# Altium schematic symbol library exBoard.SCHLIB: 34 symbols
Pins are listed as number, name and electrical type; pins without a type are passive.

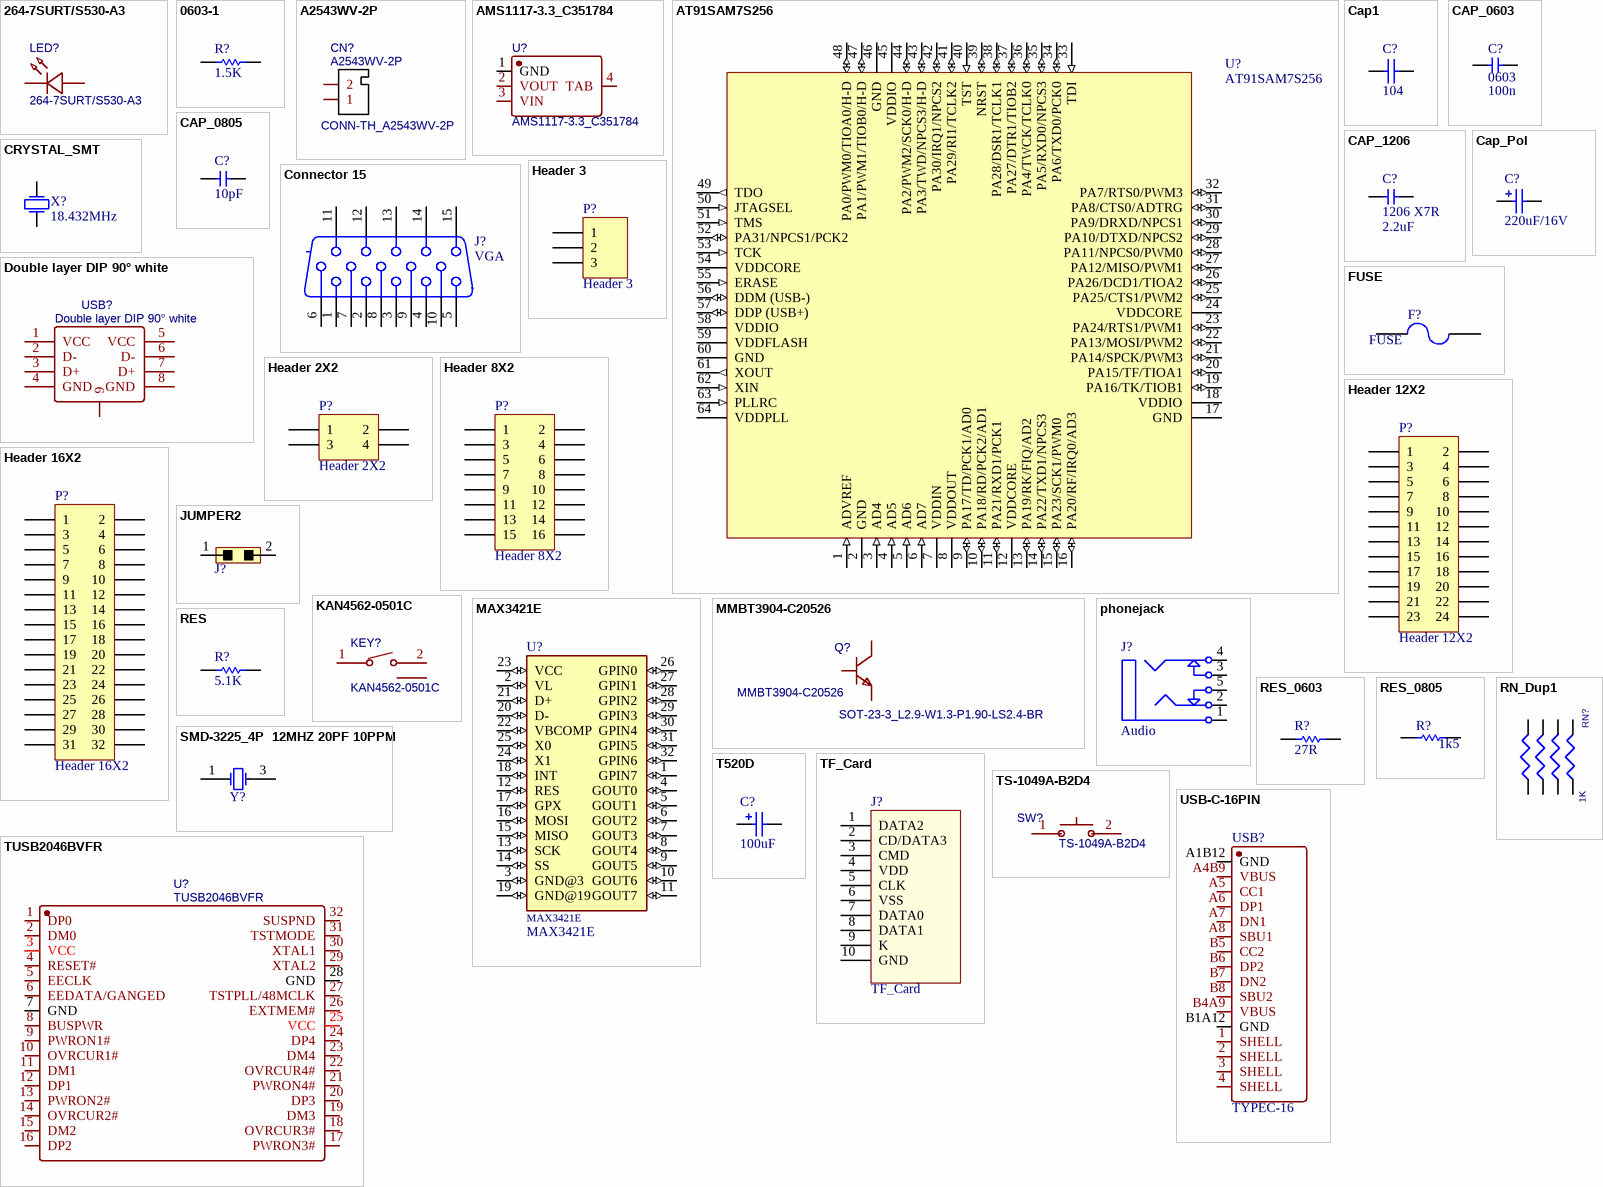
[diagram p0: symbols 264-7SURT/S530-A3 to USB-C-16PIN]

## 264-7SURT/S530-A3
designator LED?
BOM_Manufacturer: Everlight Elec; Contributor: LCSC; BOM_Supplier: LCSC; BOM_Supplier Part: C710207; BOM_Manufacturer Part: 264-7SURT/S530-A3; spicePre: L; spiceSymbolName: 264-7SURT/S530-A3
footprint LED-TH_BD3.2-P2.54-RD
footprint LED-TH_BD3.2-P2.54-RD
pins: 1 -, 2 +

## 0603-1
designator R?, comment value 1.5K  (hidden comment: R0603)
Resistor; Published: 8-Jun-2000; LatestRevisionDate: 17-Jul-2002; LatestRevisionNote: Re-released for DXP Platform.; PackageReference: AXIAL-0.3; Publisher: Altium Limited; PackageDescription: Axial Device, Thru-Hole; 2 Leads; 0.3 in Pin Spacing
simulation model RESISTOR (Resistor)
signal-integrity model Res
footprint 0603_R
footprint 0603
footprint R0402
pins: 1, 2

## A2543WV-2P
designator CN?
BOM_Manufacturer: Changjiang Connectors; Contributor: LCSC; Package Display: Yes; BOM_Supplier: LCSC; BOM_Supplier Part: C239362; BOM_Manufacturer Part: A2543WV-2P; link: https://item.szlcsc.com/238466.html?ref=editor&logined=true; spicePre: C; spiceSymbolName: A2543WV-2P
footprint CONN-TH_A2543WV-2P
pins: 1, 2
text: CONN-TH_A2543WV-2P

## AMS1117-3.3_C351784
designator U?
BOM_Manufacturer: PUOLOP; Contributor: LCSC; BOM_Supplier: LCSC; BOM_Supplier Part: C351784; BOM_Manufacturer Part: AMS1117-3.3; spicePre: U; spiceSymbolName: AMS1117-3.3_C351784
footprint SOT-223-3_L6.5-W3.4-P2.30-LS7.0-BR
footprint SOT-223-3_L6.5-W3.4-P2.30-LS7.0-BR
pins: 1 GND, 2 VOUT, 3 VIN, 4 TAB

## AT91SAM7S256
designator U?
Atmel ARM7 microcontroller, 256k Flash; Value: AT91SAM7S256
footprint LQFP64-10-05 (LQFP64 10 x 10 x 1.4mm)
footprint LQFP64-10-05 (LQFP64 10 x 10 x 1.4mm)
pins: 1 ADVREF (in), 2 GND (power), 3 AD4 (in), 4 AD5 (in), 5 AD6 (in), 6 AD7 (in), 7 VDDIN (power), 8 VDDOUT (power), 9 PA17/TD/PCK1/AD0 (io), 10 PA18/RD/PCK2/AD1 (io), 11 PA21/RXD1/PCK1 (io), 12 VDDCORE (power), 13 PA19/RK/FIQ/AD2 (io), 14 PA22/TXD1/NPCS3 (io), 15 PA23/SCK1/PWM0 (io), 16 PA20/RF/IRQ0/AD3 (io), 17 GND (power), 18 VDDIO (power), 19 PA16/TK/TIOB1 (io), 20 PA15/TF/TIOA1 (io), 21 PA14/SPCK/PWM3 (io), 22 PA13/MOSI/PWM2 (io), 23 PA24/RTS1/PWM1 (io), 24 VDDCORE (power), 25 PA25/CTS1/PWM2 (io), 26 PA26/DCD1/TIOA2 (io), 27 PA12/MISO/PWM1 (io), 28 PA11/NPCS0/PWM0 (io), 29 PA10/DTXD/NPCS2 (io), 30 PA9/DRXD/NPCS1 (io), 31 PA8/CTS0/ADTRG (io), 32 PA7/RTS0/PWM3 (io), 33 TDI (in), 34 PA6/TXD0/PCK0 (io), 35 PA5/RXD0/NPCS3 (io), 36 PA4/TWCK/TCLK0 (io), 37 PA27/DTR1/TIOB2 (io), 38 PA28/DSR1/TCLK1 (io), 39 NRST (io), 40 TST (in), 41 PA29/RI1/TCLK2 (io), 42 PA30/IRQ1/NPCS2 (io), 43 PA3/TWD/NPCS3/H-D (io), 44 PA2/PWM2/SCK0/H-D (io), 45 VDDIO (power), 46 GND (power), 47 PA1/PWM1/TIOB0/H-D (io), 48 PA0/PWM0/TIOA0/H-D (io), 49 TDO (out), 50 JTAGSEL (in), 51 TMS (in), 52 PA31/NPCS1/PCK2 (io), 53 TCK (in), 54 VDDCORE (power), 55 ERASE (in), 56 DDM (USB-) (io), 57 DDP (USB+) (io), 58 VDDIO (power), 59 VDDFLASH (power), 60 GND (power), 61 XOUT (out), 62 XIN (in), 63 PLLRC (in), 64 VDDPLL (power)

## Cap1
designator C?  value 104  (hidden comment: Cap1)
Capacitor; Published: 8-Jun-2000; LatestRevisionDate: 17-Jul-2002; LatestRevisionNote: Re-released for DXP Platform.; PackageReference: RAD-0.3; Publisher: Altium Limited
footprint 2012[0805]-C (Chip Resistor; Body 2.0 x 1.3 mm (LxW typ))
footprint CAP_104
footprint 0603
footprint 0603
pins: 1, 2

## CAP_0603
designator C?, comment 0603  value 100n
0603 footprint non-polorised capacitor
footprint 0603
pins: 1, 2

## CAP_0805
designator C?, comment value 10pF  (hidden comment: 0603)
0805 footprint non-polarised capacitor
footprint 0805
footprint 0603
pins: 1, 2

## CAP_1206
designator C?, comment 1206 X7R  value 2.2uF
1206 footprint non-polorised capacitor
footprint 1206
footprint 0805
pins: 1, 2

## Cap_Pol
designator C?  value 220uF/16V  (hidden comment: Cap_Pol)
Capacitor; Published: 8-Jun-2000; LatestRevisionDate: 17-Jul-2002; LatestRevisionNote: Re-released for DXP Platform.; PackageReference: RAD-0.3; Publisher: Altium Limited
footprint Cap_47uF/16V
footprint CAP_10uF/16V
footprint cap_220uF/16V
footprint 3528(22u16V钽电容)
footprint 3216[1206] (Chip Resistor; Body 3.2 x 1.6 mm (LxW typ))
footprint 3528[1210] (Chip Resistor; Body 3.2 x 1.6 mm (LxW typ))
footprint 0805
pins: 1, 2

## Connector 15
designator J?, comment VGA
Receptacle Assembly, 15-Pin, Sim Line Connector; PackageDocument: B; Positions: 15; Gender: Receptacle Header; Published: 15-Jun-2001; LatestRevisionDate: 17-Jul-2002; LatestRevisionNote: Re-released for DXP Platform.; DatasheetDocument: 24-Nov-1999; PackageReference: 788574; Publisher: Altium Limited; Orientation: Right Angle
footprint VGA
footprint VGA
pins: 1, 2, 3, 4, 5, 6, 7, 8, 9, 10, 11, 12, 13, 14, 15, 16 MH1 hidden, 17 MH2 hidden

## CRYSTAL_SMT
designator X?, comment 18.432MHz
SMT crystal; Value: 18.432MHz
footprint CRYSTAL_SMT (Surface Mount Crystal)
pins: 1 X, 2 X

## Double layer DIP 90° white
designator USB?
BOM_Manufacturer: ValuePro; BOM_Supplier: LCSC; BOM_Manufacturer Part: Double layer DIP 90° white; BOM_Supplier Part: C2341; spicePre: U; spiceSymbolName: Double layer DIP 90° white
footprint USB-A-TH_USB-M-51
footprint USB-A-TH_USB-M-51
pins: 1 VCC, 2 D-, 3 D+, 4 GND, 5 VCC, 6 D-, 7 D+, 8 GND, 9

## FUSE
designator F?
footprint FUSE-1210
footprint FUSE-1812
footprint FUSE-RAD0.2
footprint FUSE-RAD
footprint 1206_
footprint FUSE_1206
pins: 1, 2

## Header 2X2
designator P?
Header, 2-Pin, Dual row; LatestRevisionDate: 17-Jul-2002; LatestRevisionNote: Re-released for DXP Platform.; Publisher: Altium Limited
footprint HDR2X2 (Connector; Header; 2x2 Position)
signal-integrity model Connector
pins: 1, 2, 3, 4

## Header 3
designator P?
Header, 3-Pin; LatestRevisionDate: 17-Jul-2002; LatestRevisionNote: Re-released for DXP Platform.; Publisher: Altium Limited
footprint HDR1X3 (Connector; Header; 3 Position)
signal-integrity model Connector
pins: 1, 2, 3

## Header 8X2
designator P?
Header, 8-Pin, Dual row; LatestRevisionDate: 17-Jul-2002; LatestRevisionNote: Re-released for DXP Platform.; Publisher: Altium Limited
footprint HDR2X8 (Connector; Header; 8x2 Position)
signal-integrity model Connector
pins: 1, 2, 3, 4, 5, 6, 7, 8, 9, 10, 11, 12, 13, 14, 15, 16

## Header 12X2
designator P?
Header, 12-Pin, Dual row; LatestRevisionDate: 17-Jul-2002; LatestRevisionNote: Re-released for DXP Platform.; Publisher: Altium Limited
footprint HDR2X12 (Connector; Header; 12x2 Position)
signal-integrity model Connector
pins: 1, 2, 3, 4, 5, 6, 7, 8, 9, 10, 11, 12, 13, 14, 15, 16, 17, 18, 19, 20, 21, 22, 23, 24

## Header 16X2
designator P?
Header, 16-Pin, Dual row; LatestRevisionDate: 17-Jul-2002; LatestRevisionNote: Re-released for DXP Platform.; Publisher: Altium Limited
footprint HDR2X16 (Connector; Header; 16x2 Position)
signal-integrity model Connector
pins: 1, 2, 3, 4, 5, 6, 7, 8, 9, 10, 11, 12, 13, 14, 15, 16, 17, 18, 19, 20, 21, 22, 23, 24, 25, 26, 27, 28, 29, 30, 31, 32

## JUMPER2
designator J?  (value not drawn)
2 Pin Jumper, 2.54mm
footprint JUMPER2_254
footprint JUMPER2_254
pins: 1, 2

## KAN4562-0501C
designator KEY?
BOM_Manufacturer: GANGYUAN; Contributor: LCSC; SMT Type: Extend; BOM_Supplier: LCSC; BOM_Supplier Part: C231728; BOM_Manufacturer Part: KAN4562-0501C; BOM_JLCPCB SMD: Yes; spicePre: K; spiceSymbolName: KAN4562-0501C
footprint KEY-TH_KAN4562-0501C
footprint KEY-TH_KAN4562-0501C
pins: 0, 1, 2

## MAX3421E
designator U?
USB Controller USB 2.0 SPI Interface 32-TQFN-EP _5x5_; MF: Maxim Integrated; Price: None; Package: TQFP-32 Maxim Integrated; Value: *; MP: MAX3421E; Availability: Unavailable; SnapEDA_Link: https://www.snapeda.com/parts/MAX3421E/Maxim%20Integrated/view-part/1077099/?ref=snap
footprint TQFP32-5MM
footprint TQFP-32_L5.0-W5.0-P0.50-LS7.0-BL
pins: 1 GPIN7 (io), 2 VL (io), 3 GND@3 (io), 4 GOUT0 (io), 5 GOUT1 (io), 6 GOUT2 (io), 7 GOUT3 (io), 8 GOUT4 (io), 9 GOUT5 (io), 10 GOUT6 (io), 11 GOUT7 (io), 12 RES (io), 13 SCK (io), 14 SS (io), 15 MISO (io), 16 MOSI (io), 17 GPX (io), 18 INT (io), 19 GND@19 (io), 20 D- (io), 21 D+ (io), 22 VBCOMP (io), 23 VCC (io), 24 X1 (io), 25 X0 (io), 26 GPIN0 (io), 27 GPIN1 (io), 28 GPIN2 (io), 29 GPIN3 (io), 30 GPIN4 (io), 31 GPIN5 (io), 32 GPIN6 (io)

## MMBT3904-C20526
designator Q?
BOM_Manufacturer: CJ; SMT Type: Basic; Contributor: 立创EDA官方封装库; Package Display: Yes; BOM_Supplier: LCSC; BOM_Manufacturer Part: MMBT3904; BOM_Supplier Part: C20526; BOM_JLCPCB SMD: Yes; spicePre: Q; spiceSymbolName: MMBT3904-C20526
footprint SOT-23-3_L2.9-W1.3-P1.90-LS2.4-BR
footprint SOT-23-3_L2.9-W1.3-P1.90-LS2.4-BR
footprint SOT-23-3_L2.9-W1.3-P1.90-LS2.4-BR
pins: 1 B, 2 E, 3 C
text: SOT-23-3_L2.9-W1.3-P1.90-LS2.4-BR

## phonejack
designator J?, comment Audio
footprint phonejack
pins: 1, 2, 3, 4, 5

## RES
designator R?, comment 5.1K
footprint 0201R
footprint 0402R
footprint 0603R
footprint 0805R
footprint 1206R
footprint 1812R
footprint 2010R
footprint 2512R
footprint AXIAL0.3
footprint AXIAL0.4 (1/4W/1/2W)
footprint AXIAL0.5 (1/2W/1W)
footprint AXIAL0.6 (Variable Resistor; 2 Leads)
footprint AXIAL0.7 (Variable Resistor; 2 Leads)
footprint AXIAL0.9 (Magnetic-Core Inductor; 2 Leads)
footprint AXIAL0.8 (Adjustable Inductor; 2 Leads)
footprint AXIAL1.0 (Adjustable Magnetic-Core Inductor; 2 Leads)
footprint R0402
footprint R0402
footprint 0603
footprint R0402
pins: 1, 2

## RES_0603
designator R?, comment value 27R  (hidden comment: 0603)
0603 footprint resistor
footprint 0603
footprint 0603
pins: 1, 2

## RES_0805
designator R?, comment value 1k5  (hidden comment: 0603)
0805 footprint resistor
footprint 0805
footprint 0603
pins: 1, 2

## RN_Dup1
designator RN?, comment 1K
footprint RN-8P
footprint RN-8P
pins: 1, 2, 3, 4, 5, 6, 7, 8

## SMD-3225_4P  12MHZ 20PF 10PPM
designator Y?, comment 12MHZ 20PF 10PPM  (value not drawn)
贴片晶振; ComponentLink1Description: 供应商链接; ComponentLink1URL: http://www.szlcsc.com/product/details_9522.html; Package: SMD-3225_4P; Supplier: LC; SuppliersPartNumber: C9002
footprint SMD-3225_4P
footprint SMD-3225_4P
footprint SMD-3225_4P
pins: 1 OSC1, 3 OSC2

## T520D
designator C?  value 100uF  (hidden comment: T520D)
Polymer Tantalum Chip Capacitor, T520 Series - KO-CAP Polymer; Published: 17-Jul-2002; LatestRevisionDate: 19-Mar-2004; LatestRevisionNote: Silkscreen dimensions re-sized.; DatasheetDocument: Mar-2001; PackageDocument: Mar-2001; PackageReference: D; Publisher: Altium Limited; Code_JEITA: 7343-31; ComponentLink1Description: Manufacturer Link; ComponentLink1URL: http://www.kemet.com/; ComponentLink2Description: Datasheet; ComponentLink2URL: http://www.kemet.com/kemet/web/homepage/kechome.nsf/vapubfilesname/F3102TA.pdf/$file/F3102TA.pdf
footprint D (Capacitor, SM Tantalum; Body 7.3 x 4.3 mm (LxW typ))
simulation model CAP (Capacitor)
signal-integrity model T520D
footprint CAPT
pins: 1, 2
1 alternate drawing of the same symbol

## TF_Card
designator J?
TF卡座; 版权归属: 源创客; BOM名称: TF卡座; 学习资源: www.ooocke.com
footprint Micro SD
footprint TF1
pins: 1 DATA2, 2 CD/DATA3, 3 CMD, 4 VDD, 5 CLK, 6 VSS, 7 DATA0, 8 DATA1, 9 K, 10 GND

## TS-1049A-B2D4
designator SW?
BOM_Manufacturer: Yuandi; Contributor: LCSC; BOM_Supplier: LCSC; BOM_Supplier Part: C585167; BOM_Manufacturer Part: TS-1049A-B2D4; spicePre: S; spiceSymbolName: TS-1049A-B2D4
footprint SW-SMD_L3.0-W2.0-LS3.5
footprint SW-SMD_L3.0-W2.0-LS3.5
pins: 1, 2

## TUSB2046BVFR
designator U?
BOM_Manufacturer: Texas Instruments; Contributor: LCSC; SMT Type: Extend; BOM_Supplier: LCSC; BOM_Supplier Part: C167642; BOM_Manufacturer Part: TUSB2046BVFR; BOM_JLCPCB SMD: Yes; spicePre: U; spiceSymbolName: TUSB2046BVFR
footprint LQFP-32_L7.0-W7.0-P0.80-LS9.0-TL
pins: 1 DP0, 2 DM0, 3 VCC, 4 RESET#, 5 EECLK, 6 EEDATA/GANGED, 7 GND, 8 BUSPWR, 9 PWRON1#, 10 OVRCUR1#, 11 DM1, 12 DP1, 13 PWRON2#, 14 OVRCUR2#, 15 DM2, 16 DP2, 17 PWRON3#, 18 OVRCUR3#, 19 DM3, 20 DP3, 21 PWRON4#, 22 OVRCUR4#, 23 DM4, 24 DP4, 25 VCC, 26 EXTMEM#, 27 TSTPLL/48MCLK, 28 GND, 29 XTAL2, 30 XTAL1, 31 TSTMODE, 32 SUSPND

## USB-C-16PIN
designator USB?, comment TYPEC-16
footprint USB-C-16PIN
footprint USB-C-16PIN
footprint USB-C-16PIN
pins: 1 SHELL, 2 SHELL, 3 SHELL, 4 SHELL, A1B12 GND, A4B9 VBUS, A5 CC1, A6 DP1, A7 DN1, A8 SBU1, B1A12 GND, B4A9 VBUS, B5 CC2, B6 DP2, B7 DN2, B8 SBU2